# EAGLE library part WP_SNAP-IN_BASE (library WP_SNAP-IN_BASE)
SIERRA WIRELESS - WP SNAP-IN BASE - SNAP-IN SOCKET BASE FOR WP SERIES MCU Source: Datasheet <http://farnell.com//datasheets/2611080.pdf>
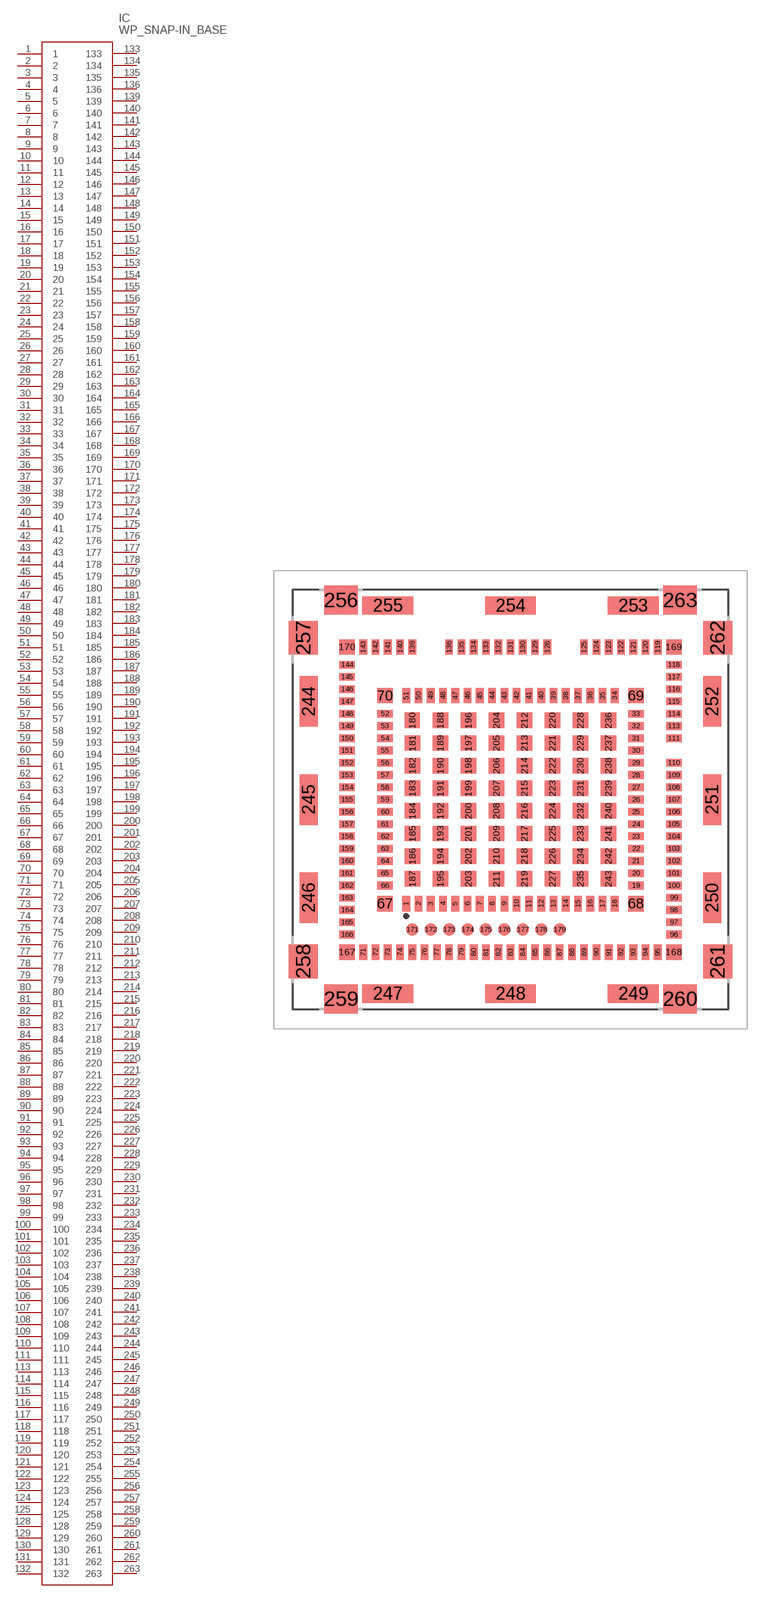
[diagram p0: symbol with the pads of WPSNAPINBASE; footprint WPSNAPINBASE]

Designator prefix IC

## WP_SNAP-IN_BASE (Arrow_Part_Number: WP SNAP-IN BASE; Description: SIERRA WIRELESS - WP SNAP-IN BASE - SNAP-IN SOCKET BASE FOR WP SERIES MCU; Height: 4mm; Manufacturer_Name: SIERRA WIRELESS; Manufacturer_Part_Number: WP SNAP-IN BASE)  [WPSNAPINBASE]
1  1
2  2
3  3
4  4
5  5
6  6
7  7
8  8
9  9
10  10
11  11
12  12
13  13
14  14
15  15
16  16
17  17
18  18
19  19
20  20
21  21
22  22
23  23
24  24
25  25
26  26
27  27
28  28
29  29
30  30
31  31
32  32
33  33
34  34
35  35
36  36
37  37
38  38
39  39
40  40
41  41
42  42
43  43
44  44
45  45
46  46
47  47
48  48
49  49
50  50
51  51
52  52
53  53
54  54
55  55
56  56
57  57
58  58
59  59
60  60
61  61
62  62
63  63
64  64
65  65
66  66
67  67
68  68
69  69
70  70
71  71
72  72
73  73
74  74
75  75
76  76
77  77
78  78
79  79
80  80
81  81
82  82
83  83
84  84
85  85
86  86
87  87
88  88
89  89
90  90
91  91
92  92
93  93
94  94
95  95
96  96
97  97
98  98
99  99
100  100
101  101
102  102
103  103
104  104
105  105
106  106
107  107
108  108
109  109
110  110
111  111
113  113
114  114
115  115
116  116
117  117
118  118
119  119
120  120
121  121
122  122
123  123
124  124
125  125
128  128
129  129
130  130
131  131
132  132
133  133
134  134
135  135
136  136
139  139
140  140
141  141
142  142
143  143
144  144
145  145
146  146
147  147
148  148
149  149
150  150
151  151
152  152
153  153
154  154
155  155
156  156
157  157
158  158
159  159
160  160
161  161
162  162
163  163
164  164
165  165
166  166
167  167
168  168
169  169
170  170
171  171
172  172
173  173
174  174
175  175
176  176
177  177
178  178
179  179
180  180
181  181
182  182
183  183
184  184
185  185
186  186
187  187
188  188
189  189
190  190
191  191
192  192
193  193
194  194
195  195
196  196
197  197
198  198
199  199
200  200
201  201
202  202
203  203
204  204
205  205
206  206
207  207
208  208
209  209
210  210
211  211
212  212
213  213
214  214
215  215
216  216
217  217
218  218
219  219
220  220
221  221
222  222
223  223
224  224
225  225
226  226
227  227
228  228
229  229
230  230
231  231
232  232
233  233
234  234
235  235
236  236
237  237
238  238
239  239
240  240
241  241
242  242
243  243
244  244
245  245
246  246
247  247
248  248
249  249
250  250
251  251
252  252
253  253
254  254
255  255
256  256
257  257
258  258
259  259
260  260
261  261
262  262
263  263

## Footprint WPSNAPINBASE (pad centres in mm)
WP SNAP-IN BASE
smd 0.5 x 1: 1 -6.8,-6.78; 2 -6,-6.78; 3 -5.2,-6.78; 4 -4.4,-6.78; 5 -3.6,-6.78; 6 -2.8,-6.78; 7 -2,-6.78; 8 -1.2,-6.78; 9 -0.4,-6.78; 10 0.4,-6.78; 11 1.2,-6.78; 12 2,-6.78; 13 2.8,-6.78; 14 3.6,-6.78; 15 4.4,-6.78; 16 5.2,-6.78; 17 6,-6.78; 18 6.8,-6.78; 34 6.8,6.78; 35 6,6.78; 36 5.2,6.78; 37 4.4,6.78; 38 3.6,6.78; 39 2.8,6.78; 40 2,6.78; 41 1.2,6.78; 42 0.4,6.78; 43 -0.4,6.78; 44 -1.2,6.78; 45 -2,6.78; 46 -2.8,6.78; 47 -3.6,6.78; 48 -4.4,6.78; 49 -5.2,6.78; 50 -6,6.78; 51 -6.8,6.78; 71 -9.6,-9.95; 72 -8.8,-9.95; 73 -8,-9.95; 74 -7.2,-9.95; 75 -6.4,-9.95; 76 -5.6,-9.95; 77 -4.8,-9.95; 78 -4,-9.95; 79 -3.2,-9.95; 80 -2.4,-9.95; 81 -1.6,-9.95; 82 -0.8,-9.95; 83 0,-9.95; 84 0.8,-9.95; 85 1.6,-9.95; 86 2.4,-9.95; 87 3.2,-9.95; 88 4,-9.95; 89 4.8,-9.95; 90 5.6,-9.95; 91 6.4,-9.95; 92 7.2,-9.95; 93 8,-9.95; 94 8.8,-9.95; 95 9.6,-9.95; 119 9.6,9.95; 120 8.8,9.95; 121 8,9.95; 122 7.2,9.95; 123 6.4,9.95; 124 5.6,9.95; 125 4.8,9.95; 128 2.4,9.95; 129 1.6,9.95; 130 0.8,9.95; 131 0,9.95; 132 -0.8,9.95; 133 -1.6,9.95; 134 -2.4,9.95; 135 -3.2,9.95; 136 -4,9.95; 139 -6.4,9.95; 140 -7.2,9.95; 141 -8,9.95; 142 -8.8,9.95; 143 -9.6,9.95
smd 1 x 0.5: 19 8.18,-5.6; 20 8.18,-4.8; 21 8.18,-4; 22 8.18,-3.2; 23 8.18,-2.4; 24 8.18,-1.6; 25 8.18,-0.8; 26 8.18,0; 27 8.18,0.8; 28 8.18,1.6; 29 8.18,2.4; 30 8.18,3.2; 31 8.18,4; 32 8.18,4.8; 33 8.18,5.6; 52 -8.18,5.6; 53 -8.18,4.8; 54 -8.18,4; 55 -8.18,3.2; 56 -8.18,2.4; 57 -8.18,1.6; 58 -8.18,0.8; 59 -8.18,0; 60 -8.18,-0.8; 61 -8.18,-1.6; 62 -8.18,-2.4; 63 -8.18,-3.2; 64 -8.18,-4; 65 -8.18,-4.8; 66 -8.18,-5.6; 96 10.65,-8.8; 97 10.65,-8; 98 10.65,-7.2; 99 10.65,-6.4; 100 10.65,-5.6; 101 10.65,-4.8; 102 10.65,-4; 103 10.65,-3.2; 104 10.65,-2.4; 105 10.65,-1.6; 106 10.65,-0.8; 107 10.65,0; 108 10.65,0.8; 109 10.65,1.6; 110 10.65,2.4; 111 10.65,4; 113 10.65,4.8; 114 10.65,5.6; 115 10.65,6.4; 116 10.65,7.2; 117 10.65,8; 118 10.65,8.8; 144 -10.65,8.8; 145 -10.65,8; 146 -10.65,7.2; 147 -10.65,6.4; 148 -10.65,5.6; 149 -10.65,4.8; 150 -10.65,4; 151 -10.65,3.2; 152 -10.65,2.4; 153 -10.65,1.6; 154 -10.65,0.8; 155 -10.65,0; 156 -10.65,-0.8; 157 -10.65,-1.6; 158 -10.65,-2.4; 159 -10.65,-3.2; 160 -10.65,-4; 161 -10.65,-4.8; 162 -10.65,-5.6; 163 -10.65,-6.4; 164 -10.65,-7.2; 165 -10.65,-8; 166 -10.65,-8.8
smd 1 x 1: 67 -8.18,-6.78; 68 8.18,-6.78; 69 8.18,6.78; 70 -8.18,6.78; 167 -10.65,-9.95; 168 10.65,-9.95; 169 10.65,9.95; 170 -10.65,9.95; 180 -6.4,5.162; 181 -6.388,3.688; 182 -6.388,2.213; 183 -6.388,0.737; 184 -6.388,-0.737; 185 -6.388,-2.213; 186 -6.388,-3.688; 187 -6.388,-5.163; 188 -4.563,5.162; 189 -4.563,3.688; 190 -4.563,2.213; 191 -4.563,0.737; 192 -4.563,-0.737; 193 -4.563,-2.213; 194 -4.563,-3.688; 195 -4.563,-5.163; 196 -2.738,5.162; 197 -2.738,3.688; 198 -2.738,2.213; 199 -2.738,0.737; 200 -2.738,-0.737; 201 -2.738,-2.213; 202 -2.738,-3.688; 203 -2.738,-5.163; 204 -0.913,5.162; 205 -0.913,3.688; 206 -0.913,2.213; 207 -0.913,0.737; 208 -0.913,-0.737; 209 -0.913,-2.213; 210 -0.913,-3.688; 211 -0.913,-5.163; 212 0.912,5.162; 213 0.912,3.688; 214 0.912,2.213; 215 0.912,0.737; 216 0.912,-0.737; 217 0.912,-2.213; 218 0.912,-3.688; 219 0.912,-5.163; 220 2.737,5.162; 221 2.737,3.688; 222 2.737,2.213; 223 2.737,0.737; 224 2.737,-0.737; 225 2.737,-2.213; 226 2.737,-3.688; 227 2.737,-5.163; 228 4.562,5.162; 229 4.562,3.688; 230 4.562,2.213; 231 4.562,0.737; 232 4.562,-0.737; 233 4.562,-2.213; 234 4.562,-3.688; 235 4.562,-5.163; 236 6.388,5.162; 237 6.388,3.688; 238 6.388,2.213; 239 6.388,0.737; 240 6.388,-0.737; 241 6.388,-2.213; 242 6.388,-3.688; 243 6.388,-5.163
smd 0.8 x 0.8: 171 -6.4,-8.48; 172 -5.2,-8.48; 173 -4,-8.48; 174 -2.8,-8.48; 175 -1.6,-8.48; 176 -0.4,-8.48; 177 0.8,-8.48; 178 2,-8.48; 179 3.2,-8.48
smd 1.2 x 3.3: 244 -13.15,6.4; 245 -13.15,0; 246 -13.15,-6.4; 250 13.15,-6.4; 251 13.15,0; 252 13.15,6.4
smd 3.3 x 1.2: 247 -8,-12.65; 248 0,-12.65; 249 8,-12.65; 253 8,12.65; 254 0,12.65; 255 -8,12.65
smd 2.2 x 1.9: 256 -11.05,13; 259 -11.05,-13; 260 11.05,-13; 263 11.05,13
smd 1.9 x 2.2: 257 -13.5,10.55; 258 -13.5,-10.55; 261 13.5,-10.55; 262 13.5,10.55